# Altium footprint library Nano.PcbLib: 1 footprints
Each footprint in its own frame and in the unit in brackets; x right, y up, seen from the top. Pads: shape width x height; smd on the part's side, far side on the other; paste and mask are expansions set on the pad; w line width, h text height; cw(c..) or ccw(c..) is an arc to the next point about the centre after c.
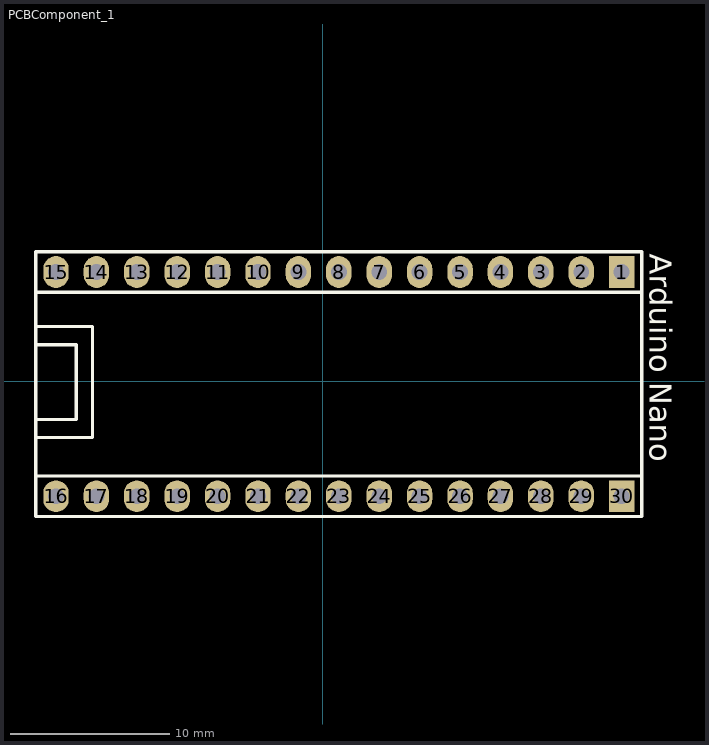
[diagram p0: the footprint, top view; thin cyan lines are the x and y axes]

## PCBComponent_1 [mm]
pads (30):
  rect 1.6x2 hole 1: 1(18.796,6.858) 30(18.796,-7.239)
  oval 1.6x2 hole 1: 2(16.256,6.858) 3(13.716,6.858) 4(11.176,6.858) 5(8.636,6.858) 6(6.096,6.858) 7(3.556,6.858) 8(1.016,6.858) 9(-1.524,6.858) 10(-4.064,6.858) 11(-6.604,6.858) 12(-9.144,6.858) 13(-11.684,6.858) 14(-14.224,6.858) 15(-16.764,6.858) 16(-16.764,-7.239) 17(-14.224,-7.239) 18(-11.684,-7.239) 19(-9.144,-7.239) 20(-6.604,-7.239) 21(-4.064,-7.239) 22(-1.524,-7.239) 23(1.016,-7.239) 24(3.556,-7.239) 25(6.096,-7.239) 26(8.636,-7.239) 27(11.176,-7.239) 28(13.716,-7.239) 29(16.256,-7.239)
Top Overlay:
  lines w0.2: -18.034,-7.493 -18.034,6.858 ; -18.034,-3.429 -18.034,-3.556 -14.478,-3.556 -14.478,3.429 -18.034,3.429 ; -18.034,-2.413 -15.494,-2.413 -15.494,2.286 -18.034,2.286 ; 20.066,-8.128 20.066,8.001 ; -18.034,-8.509 18.161,-8.509 20.066,-8.509 20.066,-5.969 -18.034,-5.969 -18.034,-8.509 ; -18.034,5.588 18.161,5.588 20.066,5.588 20.066,8.128 -18.034,8.128 -18.034,5.588
  text "Arduino Nano" at 20.574,8.001 h1.4
3D body "Arduino_Nano_Pines_All.stp": height 16.47, standoff -3.28, extent -21.844,-9.232 22.62,8.978